# EAGLE library part MCP41XXX (library maxorig)
MCP41*** - SPI controlled digital single potentiometer Supports shutdown feature that open-circuits A, and shorts B and the wiper for minimum power consumption, selectable in software. Technical specifications: VCC: 2.7-5.5V Max static current: 1uA 256 taps Available with ranges: 10k, 50k, and 100k Ohms Temperature range: -40 to 85C
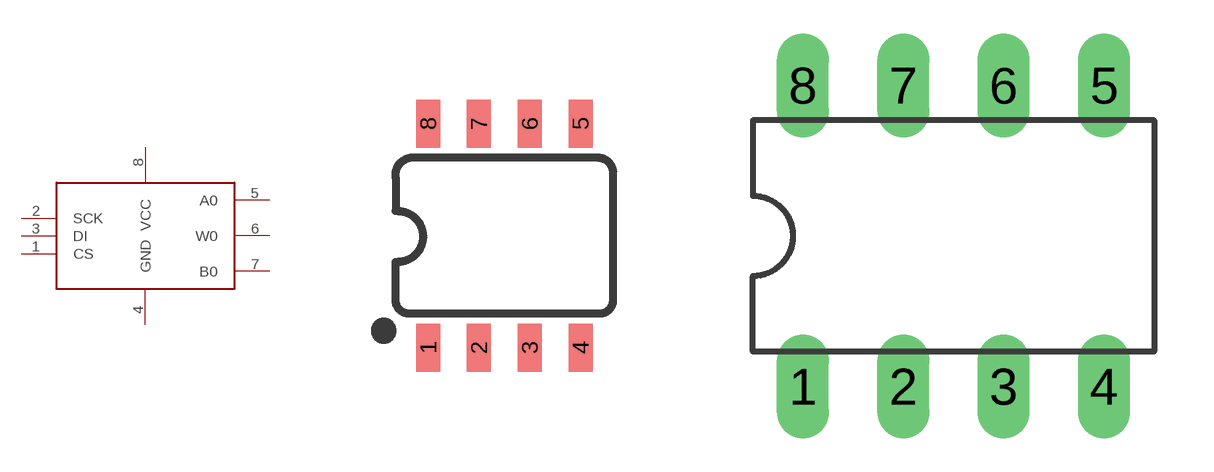
[diagram p32: symbol with the pads of SOIC-08; footprints SOIC-08, DIL08]

Designator prefix -

## MCP41XXXSOIC  [SOIC-08]
1  CS
2  SCK
3  DI
4  GND
5  A0
6  W0
7  B0
8  VCC

## MCP41XXXPDIP  [DIL08]
Pads as for SOIC-08

## Footprint SOIC-08 (pad centres in mm)
SOIC, 0.15 inch width
smd 0.6 x 1.2: 1 -1.905,-2.8; 2 -0.635,-2.8; 3 0.635,-2.8; 4 1.905,-2.8; 5 1.905,2.8; 6 0.635,2.8; 7 -0.635,2.8; 8 -1.905,2.8

## Footprint DIL08 (pad centres in mm)
Dual In Line Package
drill 0.813 long: 1 -3.81,-3.81; 2 -1.27,-3.81; 3 1.27,-3.81; 4 3.81,-3.81; 5 3.81,3.81; 6 1.27,3.81; 7 -1.27,3.81; 8 -3.81,3.81